# Altium schematic symbol library SWITCH_SPST_PUSH_NO.SchLib: 1 symbol
Pins are listed as number, name and electrical type; pins without a type are passive.

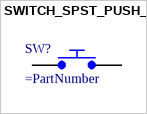
[diagram p0: symbol SWITCH_SPST_PUSH_NO]

## SWITCH_SPST_PUSH_NO
designator SW?
pins: 1, 2